# Altium schematic symbol library PA4344.104NLT.SchLib: 1 symbol
Pins are listed as number, name and electrical type; pins without a type are passive.

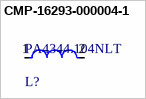
[diagram p0: symbol CMP-16293-000004-1]

## CMP-16293-000004-1
designator L?, comment PA4344.104NLT
FIXED IND 100UH 5.3A 118 MOHM; Manufacturer: Pulse Electronics; Tolerance: 20%; Saturation Current: 6.5A; Shielding: true; Test Frequency: 100kHz; Series Resistance: 118mΩ; Value: 100uH; Inductance: 100uH; ComponentLink2Description: Datasheet; Temperature: -55°C to +125°C; ComponentLink2URL: https://products.pulseelex.com/files/product_files/P771.pdf; Temperature Range High: +125°C; Octopart: https://octopart.com/pa4344.104nlt-pulse-65154399; Device Class L2: Inductors; Composition: Molded; Digikey Description: FIXED IND 100UH 5.3A 118 MOHM; Lead Free: Yes; Device Class L3: Fixed Inductors; Category: Ind; Temperature Range Low: -55°C; Height: 7mm; Automotive: No; Device Class L1: Passive Components; RoHS: TRUE; Rms Current: 5.3A; Package: 0; Manufacturer Part Number: PA4344.104NLT
footprint FP-PA4344_104NLT-MFG
pins: 1, 2